# EAGLE library part TD62083 (library driver_TD62083)
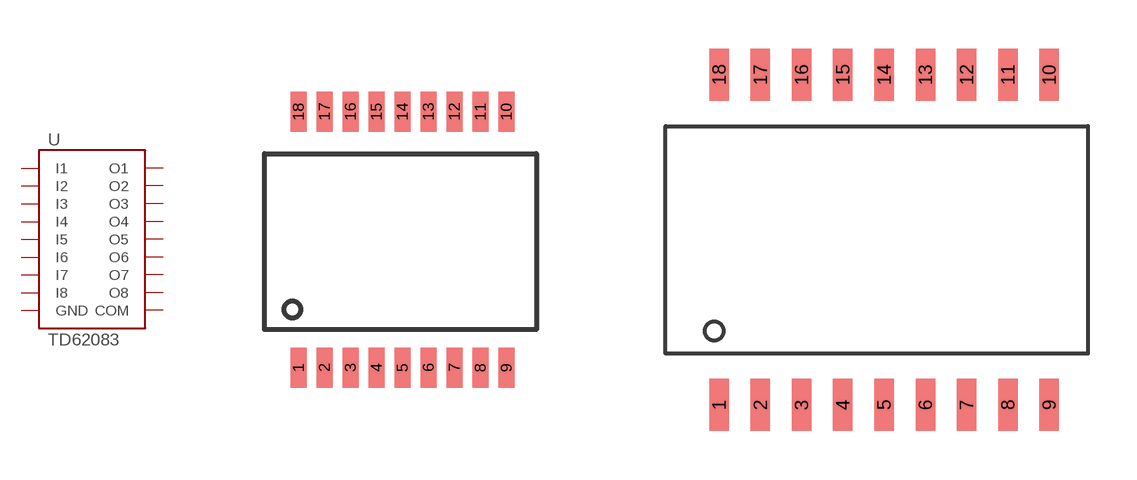
[diagram p0: symbol with the pads of SSOP18; footprints SSOP18, SOP18]

Designator prefix U

## TD62083  [SSOP18]
1  I1
2  I2
3  I3
4  I4
5  I5
6  I6
7  I7
8  I8
9  GND
10  COM
11  O8
12  O7
13  O6
14  O5
15  O4
16  O3
17  O2
18  O1

## TD62083SOP18  [SOP18]
Pads as for SSOP18

## Footprint SSOP18 (pad centres in mm)
smd 0.4 x 1: 1 -2.55,-3.15; 2 -1.9,-3.15; 3 -1.25,-3.15; 4 -0.6,-3.15; 5 0.05,-3.15; 6 0.7,-3.15; 7 1.35,-3.15; 8 2,-3.15; 9 2.65,-3.15; 10 2.65,3.25; 11 2,3.25; 12 1.35,3.25; 13 0.7,3.25; 14 0.05,3.25; 15 -0.6,3.25; 16 -1.25,3.25; 17 -1.9,3.25; 18 -2.55,3.25

## Footprint SOP18 (pad centres in mm)
smd 0.6 x 1.6: 1 -5.08,-5.08; 2 -3.81,-5.08; 3 -2.54,-5.08; 4 -1.27,-5.08; 5 0,-5.08; 6 1.27,-5.08; 7 2.54,-5.08; 8 3.81,-5.08; 9 5.08,-5.08; 10 5.08,5.08; 11 3.81,5.08; 12 2.54,5.08; 13 1.27,5.08; 14 0,5.08; 15 -1.27,5.08; 16 -2.54,5.08; 17 -3.81,5.08; 18 -5.08,5.08